# Altium schematic symbol library mod.SchLib: 3 symbols
Pins are listed as number, name and electrical type; pins without a type are passive.

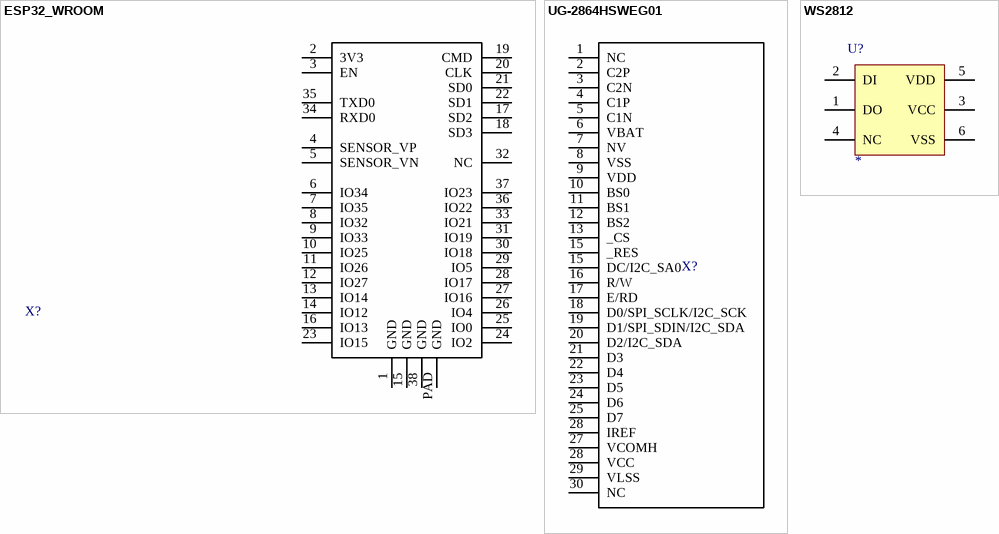
[diagram p0: symbols ESP32_WROOM to WS2812]

## ESP32_WROOM
designator X?  (value not drawn)
ESP32 WROOM
pins: 1 GND, 2 3V3, 3 EN, 4 SENSOR_VP, 5 SENSOR_VN, 6 IO34, 7 IO35, 8 IO32, 9 IO33, 10 IO25, 11 IO26, 12 IO27, 13 IO14, 14 IO12, 15 GND, 16 IO13, 17 SD2, 18 SD3, 19 CMD, 20 CLK, 21 SD0, 22 SD1, 23 IO15, 24 IO2, 25 IO0, 26 IO4, 27 IO16, 28 IO17, 29 IO5, 30 IO18, 31 IO19, 32 NC, 33 IO21, 34 RXD0, 35 TXD0, 36 IO22, 37 IO23, 38 GND, PAD GND

## UG-2864HSWEG01
designator X?  (value not drawn)
0.96" OLED, 128x64 px, UG-2864HSWEG01
pins: 1 NC, 2 C2P, 3 C2N, 4 C1P, 5 C1N, 6 VBAT, 7 NV, 8 VSS, 9 VDD, 10 BS0, 11 BS1, 12 BS2, 13 _CS, 15 _RES, 15 DC/I2C_SA0, 16 R/W, 17 E/RD, 18 D0/SPI_SCLK/I2C_SCK, 19 D1/SPI_SDIN/I2C_SDA, 20 D2/I2C_SDA, 21 D3, 22 D4, 23 D5, 24 D6, 25 D7, 27 VCOMH, 28 IREF, 28 VCC, 29 VLSS, 30 NC

## WS2812
designator U?
Addressable RGB LED IC; Manufacturer PN: *
pins: 1 DO, 2 DI, 3 VCC, 4 NC, 5 VDD, 6 VSS